# EAGLE library part IC_DAC_MAX5100 (library mylib_20130829)
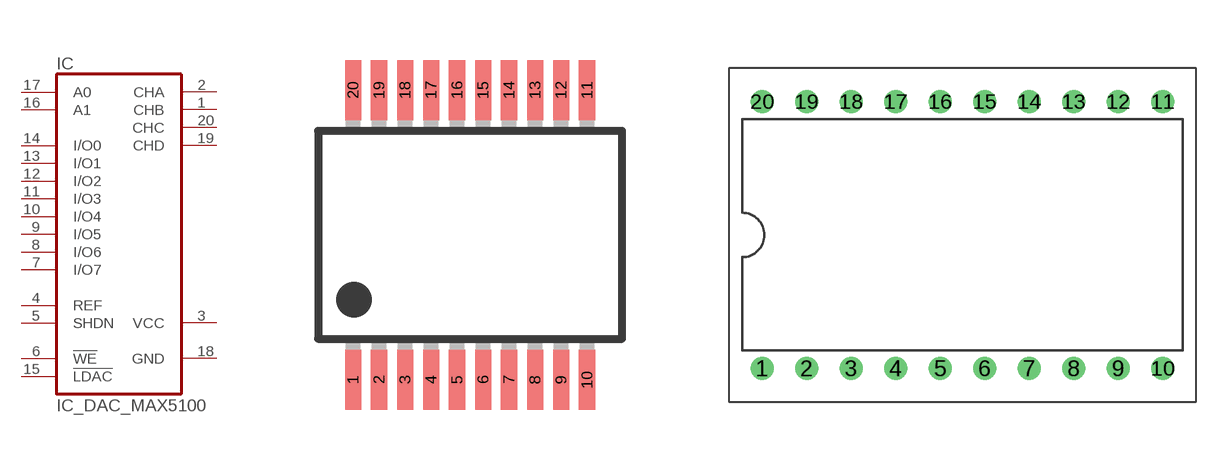
[diagram p82: symbol with the pads of IC_20_0.65_200MIL; footprints IC_20_0.65_200MIL, BOARD_HENKAN_WDIP20]

Designator prefix IC

## IC_DAC_MAX5100_FLAT  [IC_20_0.65_200MIL]
1  CHB  out
2  CHA  out
3  VCC  pwr
4  REF  pas
5  SHDN  in
6  !WE!  in
7  I/O7
8  I/O6
9  I/O5
10  I/O4
11  I/O3
12  I/O2
13  I/O1
14  I/O0
15  !LDAC!  in
16  A1  in
17  A0  in
18  GND  pwr
19  CHD  out
20  CHC  out

## IC_DAC_MAX5100_HENKAN  [BOARD_HENKAN_WDIP20]
Pads as for IC_20_0.65_200MIL

## Footprint IC_20_0.65_200MIL (pad centres in mm)
smd 0.4 x 1.5: 1 -2.925,-3.625; 2 -2.275,-3.625; 3 -1.625,-3.625; 4 -0.975,-3.625; 5 -0.325,-3.625; 6 0.325,-3.625; 7 0.975,-3.625; 8 1.625,-3.625; 9 2.275,-3.625; 10 2.925,-3.625; 11 2.925,3.625; 12 2.275,3.625; 13 1.625,3.625; 14 0.975,3.625; 15 0.325,3.625; 16 -0.325,3.625; 17 -0.975,3.625; 18 -1.625,3.625; 19 -2.275,3.625; 20 -2.925,3.625

## Footprint BOARD_HENKAN_WDIP20 (pad centres in mm)
drill 0.813: 1 -11.43,-7.62; 2 -8.89,-7.62; 3 -6.35,-7.62; 4 -3.81,-7.62; 5 -1.27,-7.62; 6 1.27,-7.62; 7 3.81,-7.62; 8 6.35,-7.62; 9 8.89,-7.62; 10 11.43,-7.62; 11 11.43,7.62; 12 8.89,7.62; 13 6.35,7.62; 14 3.81,7.62; 15 1.27,7.62; 16 -1.27,7.62; 17 -3.81,7.62; 18 -6.35,7.62; 19 -8.89,7.62; 20 -11.43,7.62